# Altium schematic symbol library ROV_Voltage_Switch.SchLib: 7 symbols
Pins are listed as number, name and electrical type; pins without a type are passive.

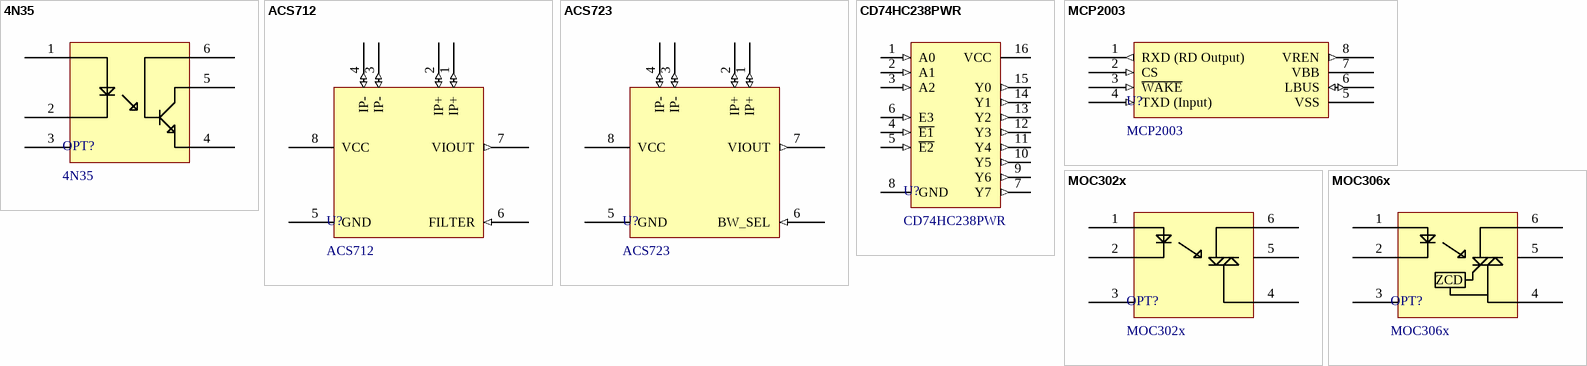
[diagram p0: symbols 4N35 to MOC306x]

## 4N35
designator OPT?
Optocoupler, Phototransistor Output, with Base Connection
footprint DIP-6 (DIP, 6-Pin, Row Spacing 7.62 mm, Pitch 2.54 mm)
pins: 1 A, 2 C, 3 NC, 4 E, 5 C, 6 B

## ACS712
designator U?
Fully Integrated, Hall-Effect-Based Linear Current Sensor IC
footprint SOIC127P600-8CL (SOIC, 8-Leads, Body 4.9x3.9mm, Pitch 1.27mm, IPC High Density)
pins: 1 IP+ (io), 2 IP+ (io), 3 IP- (io), 4 IP- (io), 5 GND (power), 6 FILTER (in), 7 VIOUT (out), 8 VCC (power)

## ACS723
designator U?
High-Accuracy, Galvanically Isolated Current Sensor IC / with Small Footprint SOIC8 Package
footprint SOIC127P600-8CL (SOIC, 8-Leads, Body 4.9x3.9mm, Pitch 1.27mm, IPC High Density)
pins: 1 IP+ (io), 2 IP+ (io), 3 IP- (io), 4 IP- (io), 5 GND (power), 6 BW_SEL (in), 7 VIOUT (out), 8 VCC (power)

## CD74HC238PWR
designator U?
High-Speed CMOS Logic 3- to 8-Line Decoder/Demultiplexer Inverting
footprint TSOP65P640-16AL (TSOP, 16-Leads, Body 5x4.4mm, Pitch 0.65mm, IPC High Density)
pins: 1 A0 (in), 2 A1 (in), 3 A2 (in), 4 ~{E1} (in), 5 ~{E2} (in), 6 E3 (in), 7 Y7 (out), 8 GND (power), 9 Y6 (out), 10 Y5 (out), 11 Y4 (out), 12 Y3 (out), 13 Y2 (out), 14 Y1 (out), 15 Y0 (out), 16 VCC (power)

## MCP2003
designator U?
LIN J2602 Transceiver
footprint SOIC127P600-8AL (SOIC, 8-Leads, Body 4.9x3.9mm, Pitch 1.27mm, IPC High Density)
footprint SOIC127P600-8AM (SOIC, 8-Leads, Body 4.9x3.9mm, Pitch 1.27mm, IPC Low Density)
footprint SOIC127P600-8AN (SOIC, 8-Leads, Body 4.9x3.9mm, Pitch 1.27mm, IPC Medium Density)
pins: 1 RXD (RD Output) (out), 2 CS (in), 3 ~{WAKE} (in), 4 TXD (Input) (in), 5 VSS (power), 6 LBUS (io), 7 VBB (power), 8 VREN (out)

## MOC302x
designator OPT?
Optoisolators Trica Driver Output
footprint DIP-6 (DIP, 6-Pin, Row Spacing 7.62 mm, Pitch 2.54 mm)
pins: 1 A, 2 C, 3 NC, 4 E, 5 C, 6 B

## MOC306x
designator OPT?
Optoisolators Trica Driver Output, With Zero Cross Detect
footprint DIP-6 (DIP, 6-Pin, Row Spacing 7.62 mm, Pitch 2.54 mm)
pins: 1 A, 2 C, 3 NC, 4 E, 5 C, 6 B
text: ZCD